# EAGLE library part INA128_MODULE (library INA128_module)
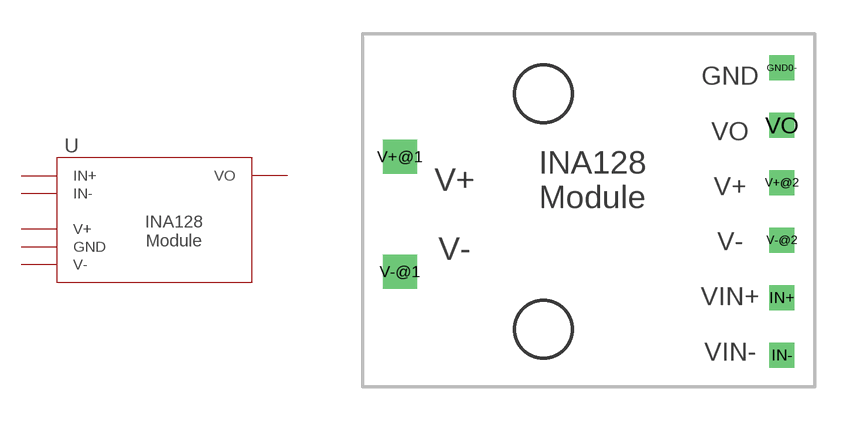
[diagram p0: symbol with the pads of INA128_MODULE_F; footprint INA128_MODULE_F]

Designator prefix -

## INA128_MODULE  [INA128_MODULE_F]
GND0-  GND  pwr
IN+  IN+  in
IN-  IN-  in
V+@1  V+  pwr
V+@2  V+  pwr
V-@1  V-  pwr
V-@2  V-  pwr
VO  VO  out

## Footprint INA128_MODULE_F (pad centres in mm)
drill 0.6 square: GND0- 8.382,7.747; IN+ 8.382,-2.413; IN- 8.382,-4.953; V+@2 8.382,2.667; V-@2 8.382,0.127; VO 8.382,5.207
drill 1 square: V+@1 -8.509,3.81; V-@1 -8.509,-1.27